# Altium footprint library wikiduino-micro-bk7251.PcbLib: 30 footprints (part 1 of 2)
Each footprint in its own frame and in the unit in brackets; x right, y up, seen from the top. Pads: shape width x height; smd on the part's side, far side on the other; paste and mask are expansions set on the pad; w line width, h text height; cw(c..) or ccw(c..) is an arc to the next point about the centre after c.
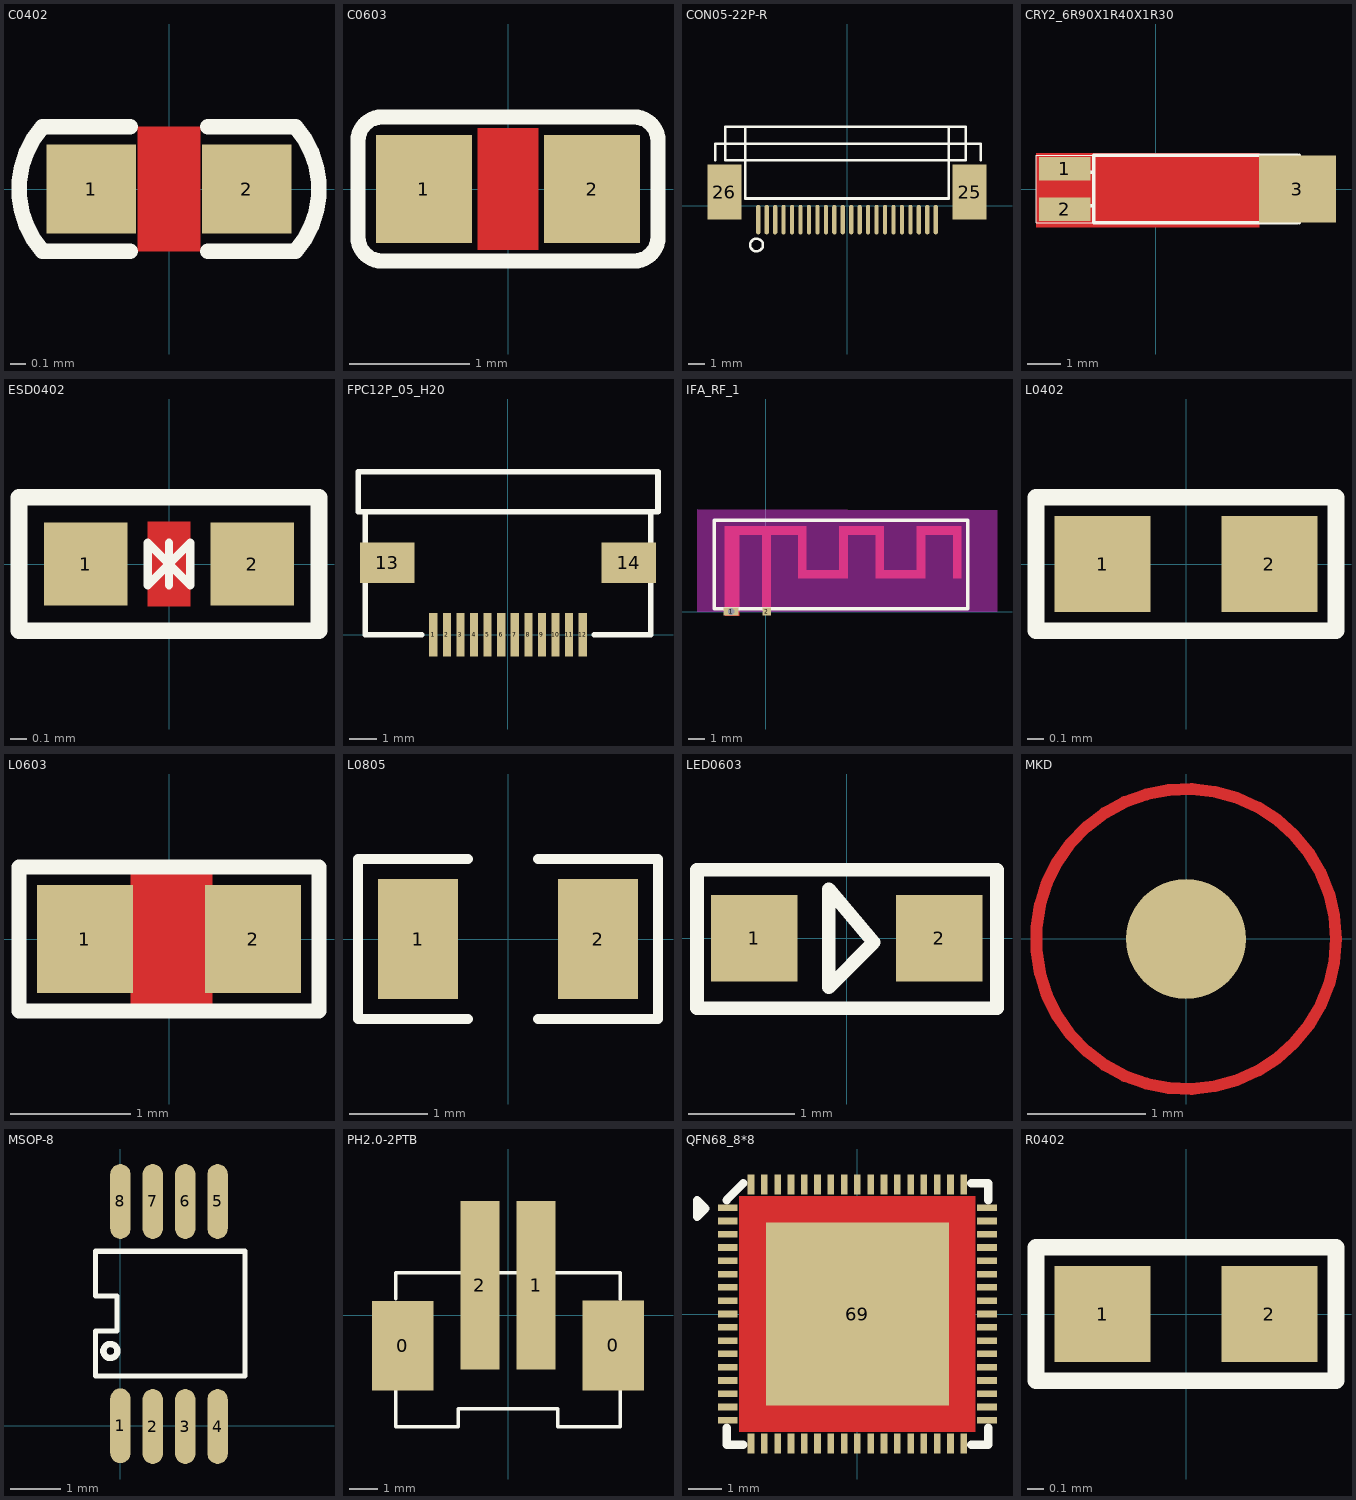
[diagram p0: the footprints below, top view; thin cyan lines are the x and y axes]

## C0402 [mm]
pads (2):
  rect 0.575x0.575 smd: 1(-0.5,0) 2(0.5,0)
Top Layer:
  pour cut-out: -0.2,0.4 0.2,0.4 0.2,-0.4 -0.2,-0.4
Top Overlay:
  lines w0.1: -0.25,-0.4 -0.813,-0.4 cw(c-0.359,0) -0.813,0.4 -0.25,0.4 ; 0.25,-0.4 0.813,-0.4 ccw(c0.359,0) 0.813,0.4 0.25,0.4

## C0603 [mil]
pads (2):
  rect 31.5x35.4 smd: 1(-27.56,0) 2(27.56,0)
Top Layer:
  pour cut-out: -10,20 -10,-20 10,-20 10,20
Top Overlay:
  lines w5: -49.21,-15.75 ccw(c-41.34,-15.75) -41.34,-23.62 41.34,-23.62 ccw(c41.34,-15.75) 49.21,-15.75 49.21,15.75 ccw(c41.34,15.75) 41.34,23.62 -41.34,23.62 ccw(c-41.34,15.75) -49.21,15.75 -49.21,-15.75

## CON05-22P-R [mm]
pads (24):
  oval 0.25x1.75 smd: 1(-5.25,-0.813) 2(-4.75,-0.813) 3(-4.25,-0.813) 4(-3.75,-0.813) 5(-3.25,-0.813) 6(-2.75,-0.813) 7(-2.25,-0.813) 8(-1.75,-0.813) 9(-1.25,-0.813) 10(-0.75,-0.813) 11(-0.25,-0.813) 12(0.25,-0.813) 13(0.75,-0.813) 14(1.25,-0.813) 15(1.75,-0.813) 16(2.25,-0.813) 17(2.75,-0.813) 18(3.25,-0.813) 19(3.75,-0.813) 20(4.25,-0.813) 21(4.75,-0.813) 22(5.25,-0.813)
  rect 2x3.25 smd: 25(7.25,0.813) 26(-7.25,0.813)
Top Overlay:
  circle w0.15: c-5.35,-2.312 r0.375
  lines w0.15: -7.785,2.688 -7.785,3.688 7.917,3.688 7.917,2.688 ; -7.2,2.688 -7.2,4.687 7.028,4.687 7.028,2.688 -7.2,2.688 ; -6.03,0.437 -6.03,4.687 6.012,4.687 6.012,0.437 -6.03,0.437

## CRY2_6R90X1R40X1R30 [mm]
pads (3):
  rect 1.524x0.7 smd: 1(-2.7,0.6) 2(-2.7,-0.6)
  rect 2.286x2 smd: 3(4.2,0)
Top Layer:
  pour cut-out: -3.558,1.054 3.059,1.054 3.059,-1.132 -3.558,-1.132
Top Overlay:
  lines w0.025: -3.55,-1 -3.55,1 4.3,1 4.3,-1 -3.55,-1
  lines w0.1: -2.45,-0.5 -1.85,-0.5 ; -2.45,0.5 -1.85,0.5 ; 4.2,-1 -1.85,-1 -1.85,1 4.2,1 ; 4.25,-1 4.25,1

## ESD0402 [mm]
pads (2):
  rect 0.5x0.5 smd: 1(-0.5,0) 2(0.5,0)
Top Layer:
  pour cut-out: -0.127,-0.254 -0.127,0.254 0.127,0.254 0.127,-0.254
Top Overlay:
  lines w0.05: 0,-0.127 0,0.127 ; 0,0 -0.127,0.127 -0.127,-0.127 0,0 ; 0,0 0.127,0.127 0.127,-0.127 0,0
  lines w0.1: -0.9,-0.4 -0.9,0.4 0.9,0.4 0.9,-0.4 -0.9,-0.4

## FPC12P_05_H20 [mm]
pads (14):
  rect 0.3x1.6 smd: 1(-2.75,0) 2(-2.25,0) 3(-1.75,0) 4(-1.25,0) 5(-0.75,0) 6(-0.25,0) 7(0.25,0) 8(0.75,0) 9(1.25,0) 10(1.75,0) 11(2.25,0) 12(2.75,0)
  rect 2x1.5 smd: 13(-4.45,2.65) 14(4.45,2.65)
Top Overlay:
  lines w0.152: -5.521,4.529 -5.521,5.909 ; -5.262,0.506 -5.262,4.506 ; 5.26,0.5 5.26,4.5 ; 5.521,4.529 5.521,5.909
  lines w0.2: -5.207,0 -3.175,0 ; 3.175,0 5.207,0
  lines w0.203: -5.26,0 -5.26,4.506 ; -4.521,4.529 5.521,4.529 ; 5.262,0 5.262,4.506 ; 5.521,4.529 -5.52,4.53 -5.52,6 5.521,6 5.521,4.529

## IFA_RF_1 [mm]
pads (2):
  rect 0.9x0.5 / inner rect 0.9x0.5 / far side oval 0.7x0.5 hole 0.4: 1(-2.1,0)
  rect 0.5x0.5 smd: 2(0.05,0)
Top Layer:
  region: -1.599,-0.25 -1.599,5.15 -2.498,5.15 -2.498,-0.25
  region: 0.301,0.092 0.301,4.9 -0.2,4.9 -0.2,0.092
  region: 2.4,5.15 -2.1,5.15 -2.1,4.651 2.4,4.651
  region: 4.95,2.01 4.95,2.51 1.95,2.51 1.95,2.01
  region: 4.95,2.01 4.95,5.15 4.449,5.15 4.449,2.01
  region: 2.45,2.01 2.45,5.15 1.95,5.15 1.95,2.01
  region: 7.15,4.65 7.15,5.15 4.449,5.15 4.449,4.65
  region: 9.65,2.01 9.65,2.51 6.949,2.51 6.949,2.01
  region: 11.85,2.01 11.85,5.15 11.35,5.15 11.35,2.01
  region: 9.65,2.01 9.65,5.15 9.15,5.15 9.15,2.01
  region: 7.15,2.01 7.15,5.15 6.65,5.15 6.65,2.01
  region: 11.85,4.651 11.85,5.15 9.15,5.15 9.15,4.651
Top Overlay:
  lines w0.2: -3.125,0.175 12.225,0.175 12.225,5.525 -3.125,5.525 -3.125,0.175
Keep-Out Layer:
  pour cut-out: 14,6.12 14,-0.004 -4.166,0 -4.166,6.203

## L0402 [mm]
pads (2):
  rect 0.575x0.575 smd: 1(-0.5,0) 2(0.5,0)
Top Overlay:
  lines w0.1: -0.9,-0.4 -0.9,0.4 0.9,0.4 0.9,-0.4 -0.9,-0.4

## L0603 [mil]
pads (2):
  rect 31.5x35.4 smd: 1(-27.56,0) 2(27.56,0)
Top Layer:
  pour cut-out: -12.6,22.44 14.17,22.44 14.17,-23.23 -12.6,-23.23
Top Overlay:
  lines w5: -49.21,-23.62 -49.21,23.62 49.21,23.62 49.21,-23.62 -49.21,-23.62

## L0805 [mil]
pads (2):
  rect 40x60 smd: 1(-45,0) 2(45,0)
Top Overlay:
  lines w5: -20,-40 -75,-40 -75,40 -20,40 ; 15,-40 75,-40 75,40 15,40

## LED0603 [mil]
pads (2):
  rect 32x32 smd: 1(-34.2,0.06) 2(34.2,-0.06)
Top Overlay:
  lines w5: -55.38,-25.89 -55.38,25.3 55.62,25.3 55.62,-25.89 -55.38,-25.89 ; -6.67,-18.21 -6.67,18.14 9.96,-1.57 -6.67,-18.21

## MKD [mil]
pads (2):
  round 40 smd: ""(0,-0.06)
  round 80 on Top Solder: ""(0,-0.06)
Top Layer:
  circle w3.94: c0,-0.06 r50

## MSOP-8 [mm]
pads (8):
  oval 0.409x1.501 smd: 1(0,0) 2(0.65,-0.016) 3(1.3,-0.016) 4(1.95,-0.016) 5(1.95,4.5) 6(1.3,4.5) 7(0.65,4.5) 8(0,4.5)
Top Overlay:
  circle w0.127: c-0.2,1.5 r0.141
  lines w0.102: -0.5,1 -0.5,1.9 -0.067,1.9 -0.067,2.6 -0.5,2.6 -0.5,3.5 2.5,3.5 2.5,1 -0.5,1

## PH2.0-2PTB [mm]
pads (4):
  rect 2.2x3.2 smd: 0(-3.75,-1.077) 0(3.75,-1.067)
  rect 1.4x6 smd: 1(1,1.077) 2(-1,1.077)
Top Overlay:
  lines w0.127: -4,-2.673 -4,-3.973 -1.778,-3.973 -1.778,-3.325 1.778,-3.325 1.778,-3.973 4,-3.973 4,-2.673 ; -4,0.603 -4,1.527 4,1.527 4,0.583

## QFN68_8*8 [mm]
pads (69):
  rect 0.6x0.2 smd: 1(-3.9,3.2) 2(-3.9,2.8) 3(-3.9,2.4) 4(-3.9,2) 5(-3.9,1.6) 6(-3.9,1.2) 7(-3.9,0.8) 8(-3.9,0.4) 9(-3.9,0) 10(-3.9,-0.4) 11(-3.9,-0.8) 12(-3.9,-1.2) 13(-3.9,-1.6) 14(-3.9,-2) 15(-3.9,-2.4) 16(-3.9,-2.8) 17(-3.9,-3.2) 35(3.9,-3.2) 36(3.9,-2.8) 37(3.9,-2.4) 38(3.9,-2) 39(3.9,-1.6) 40(3.9,-1.2) 41(3.9,-0.8) 42(3.9,-0.4) 43(3.9,0) 44(3.9,0.4) 45(3.9,0.8) 46(3.9,1.2) 47(3.9,1.6) 48(3.9,2) 49(3.9,2.4) 50(3.9,2.8) 51(3.9,3.2)
  rect 0.2x0.6 smd: 18(-3.2,-3.9) 19(-2.8,-3.9) 20(-2.4,-3.9) 21(-2,-3.9) 22(-1.6,-3.9) 23(-1.2,-3.9) 24(-0.8,-3.9) 25(-0.4,-3.9) 26(0,-3.9) 27(0.4,-3.9) 28(0.8,-3.9) 29(1.2,-3.9) 30(1.6,-3.9) 31(2,-3.9) 32(2.4,-3.9) 33(2.8,-3.9) 34(3.2,-3.9) 52(3.2,3.9) 53(2.8,3.9) 54(2.4,3.9) 55(2,3.9) 56(1.6,3.9) 57(1.2,3.9) 58(0.8,3.9) 59(0.4,3.9) 60(0,3.9) 61(-0.4,3.9) 62(-0.8,3.9) 63(-1.2,3.9) 64(-1.6,3.9) 65(-2,3.9) 66(-2.4,3.9) 67(-2.8,3.9) 68(-3.2,3.9)
  rect 5.5x5.5 smd: 69(0,0)
Top Layer:
  pour cut-out: -3.55,3.55 3.55,3.55 3.55,-3.55 -3.55,-3.55
Top Overlay:
  lines w0.254: -3.937,-3.429 -3.937,-3.937 -3.429,-3.937 ; -3.937,3.429 -3.429,3.937 ; 3.429,-3.937 3.937,-3.937 3.937,-3.429 ; 3.429,3.937 3.937,3.937 3.937,3.429 ; -4.826,2.921 -4.826,3.429 -4.572,3.175 -4.826,2.921

## R0402 [mm]
pads (2):
  rect 0.575x0.575 smd: 1(-0.5,0) 2(0.5,0)
Top Overlay:
  lines w0.1: -0.9,-0.4 0.9,-0.4 0.9,0.4 -0.9,0.4 -0.9,-0.4